# EAGLE library part MT3420 (library microcodes)
The MT3420SP can supply up to 2A output load current from a 2.3V to 6V input voltage and the output voltage can be regulated as low as 0.6V.
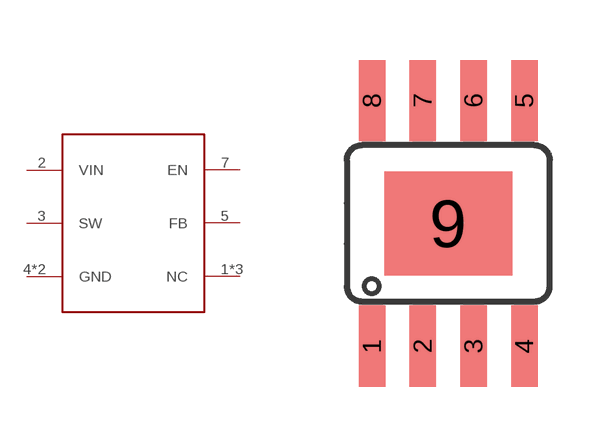
[diagram p12: symbol with the pads of SOP8SP; footprint SOP8SP]

Designator prefix -

## MT3420  [SOP8SP]
1  NC  nc
2  VIN  in
3  SW  pwr
4  GND
5  FB
6  NC  nc
7  EN
8  NC  nc
9  GND

## Footprint SOP8SP (pad centres in mm)
SOIC 150 mil. based on soic8 footprint from the maxim library. I've added the dissipation pad as per datasheet, changed tPlace elements, named the pins and fixed a weird misalignment on the third pin of the bottom row which I suppose it was the designer's signature.
smd 0.66 x 2.032: 1 -1.905,-3.073; 2 -0.635,-3.073; 3 0.635,-3.073; 4 1.905,-3.073; 5 1.905,3.073; 6 0.635,3.073; 7 -0.635,3.073; 8 -1.905,3.073
smd 3.2 x 2.6: 9 0,0